# Altium integrated library WiFiModules.IntLib: 1 symbol
Pins are listed as number, name and electrical type; pins without a type are passive.

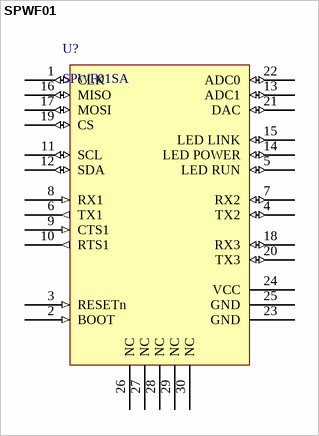
[diagram p0: symbol SPWF01]

## SPWF01
designator U?, comment SPWF01SA
Serial-to-Wi-Fi b/g/n intelligent module
footprint SPWF01SA (Serial-to-Wi-Fi b/g/n intelligent module)
footprint SPWF01SA (Serial-to-Wi-Fi b/g/n intelligent module)
pins: 1 CLK (io), 2 BOOT (in), 3 RESETn (in), 4 TX2 (io), 5 LED RUN (io), 6 TX1 (out), 7 RX2 (io), 8 RX1 (in), 9 CTS1 (in), 10 RTS1 (out), 11 SCL (io), 12 SDA (io), 13 ADC1 (io), 14 LED POWER (io), 15 LED LINK (io), 16 MISO (io), 17 MOSI (io), 18 RX3 (io), 19 CS (io), 20 TX3 (io), 21 DAC (io), 22 ADC0 (io), 23 GND, 24 VCC (power), 25 GND, 26 NC, 27 NC, 28 NC, 29 NC, 30 NC